# Altium schematic symbol library Transistor_BJT.SchLib: 1 symbol
Pins are listed as number, name and electrical type; pins without a type are passive.

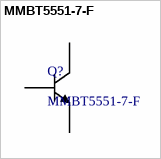
[diagram p0: symbol MMBT5551-7-F]

## MMBT5551-7-F
designator Q?
Bipolar (BJT) Transistor NPN 160 V 600 mA 300MHz 300 mW Surface Mount SOT-23-3; Manufacturer 1: Diodes Incorporated; Power - Max: 300 mW; DC Current Gain (hFE) (Min) @ Ic, Vce: 80 @ 10 mA, 5 V; Current - Collector Cutoff (Max): 500 nA (ICBO); Vce Saturation (Max) @ Ib, Ic: 200 mV @ 5 mA, 50 mA; Voltage - Collector Emitter Breakdown (Max): 160 V; Current - Collector (Ic) (Max): 600 mA; Operating Temperature: -55°C ~ 150°C (TJ); Frequency - Transition: 300 MHz; Type: NPN; Supplier Part Number 1: MMBT5551-FDICT-ND; Supplier 1: Digi-Key; Manufacturer Part Number 1: MMBT5551-7-F
footprint SOT95P240X110-3N (SOT23, 3-Leads, Body 2.90x2.40mm, Pitch 0.95mm, IPC Medium Density)
pins: 1 B, 2 E, 3 C